# Altium integrated library TMPW_5-103.IntLib: 1 symbol
Pins are listed as number, name and electrical type; pins without a type are passive.

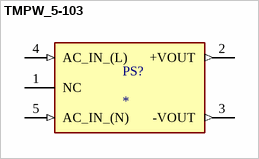
[diagram p0: symbol TMPW_5-103]

## TMPW_5-103
designator PS?
TMPW 5 Series, 5 Watt.; MP: TMPW_5-103; Value: *; Availability: Unavailable; Package: None; Price: None
footprint CONV_TMPW_5-103
pins: 1 NC, 2 +VOUT (out), 3 -VOUT (out), 4 AC_IN_(L) (in), 5 AC_IN_(N) (in)